# EAGLE library part TL074CDT (library SamacSys_Parts)
OP Amp Quad GP +/- 18V SOIC14 STMicroelectronics TL074CDT Quad Operational Amplifier, 3MHz, 14-Pin SO Source: Datasheet <http://www.st.com/st-web-ui/static/active/en/resource/technical/document/datasheet/CD00000489.pdf>
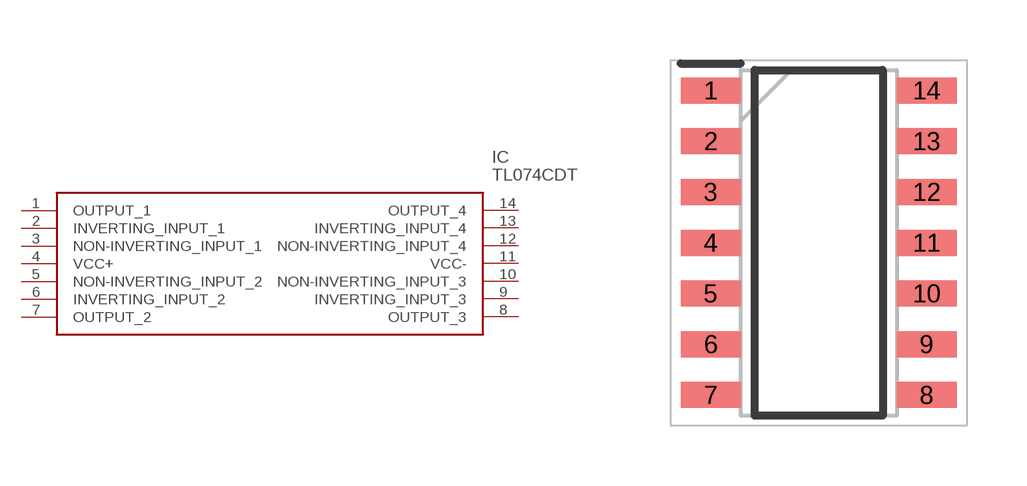
[diagram p115: symbol with the pads of SOIC127P600X175-14N; footprint SOIC127P600X175-14N]

Designator prefix IC

## TL074CDT (DESCRIPTION: OP Amp Quad GP +/- 18V SOIC14 STMicroelectronics TL074CDT Quad Operational Amplifier, 3MHz, 14-Pin SO; HEIGHT: 1.75mm; MANUFACTURER_NAME: STMicroelectronics; MANUFACTURER_PART_NUMBER: TL074CDT; MOUSER_PART_NUMBER: 511-TL074CDT; MOUSER_PRICE-STOCK: https://www.mouser.co.uk/ProductDetail/STMicroelectronics/TL074CDT?qs=MQjo3npP4sAhBVAvwSx1nw%3D%3D)  [SOIC127P600X175-14N]
1  OUTPUT_1
2  INVERTING_INPUT_1
3  NON-INVERTING_INPUT_1
4  VCC+
5  NON-INVERTING_INPUT_2
6  INVERTING_INPUT_2
7  OUTPUT_2
8  OUTPUT_3
9  INVERTING_INPUT_3
10  NON-INVERTING_INPUT_3
11  VCC-
12  NON-INVERTING_INPUT_4
13  INVERTING_INPUT_4
14  OUTPUT_4

## Footprint SOIC127P600X175-14N (pad centres in mm)
14-Lead(SL) SOIC
smd 1.5 x 0.65: 1 -2.7,3.81; 2 -2.7,2.54; 3 -2.7,1.27; 4 -2.7,0; 5 -2.7,-1.27; 6 -2.7,-2.54; 7 -2.7,-3.81; 8 2.7,-3.81; 9 2.7,-2.54; 10 2.7,-1.27; 11 2.7,0; 12 2.7,1.27; 13 2.7,2.54; 14 2.7,3.81